# EAGLE library part XCV400ES_BG432 (library xilinx-xcv)
xcv400es_bg432 edit this description Auto generated by make-symbol-device-package-bsdl.ulp Rev. 26 Source: xcv400es_bg432.bsd
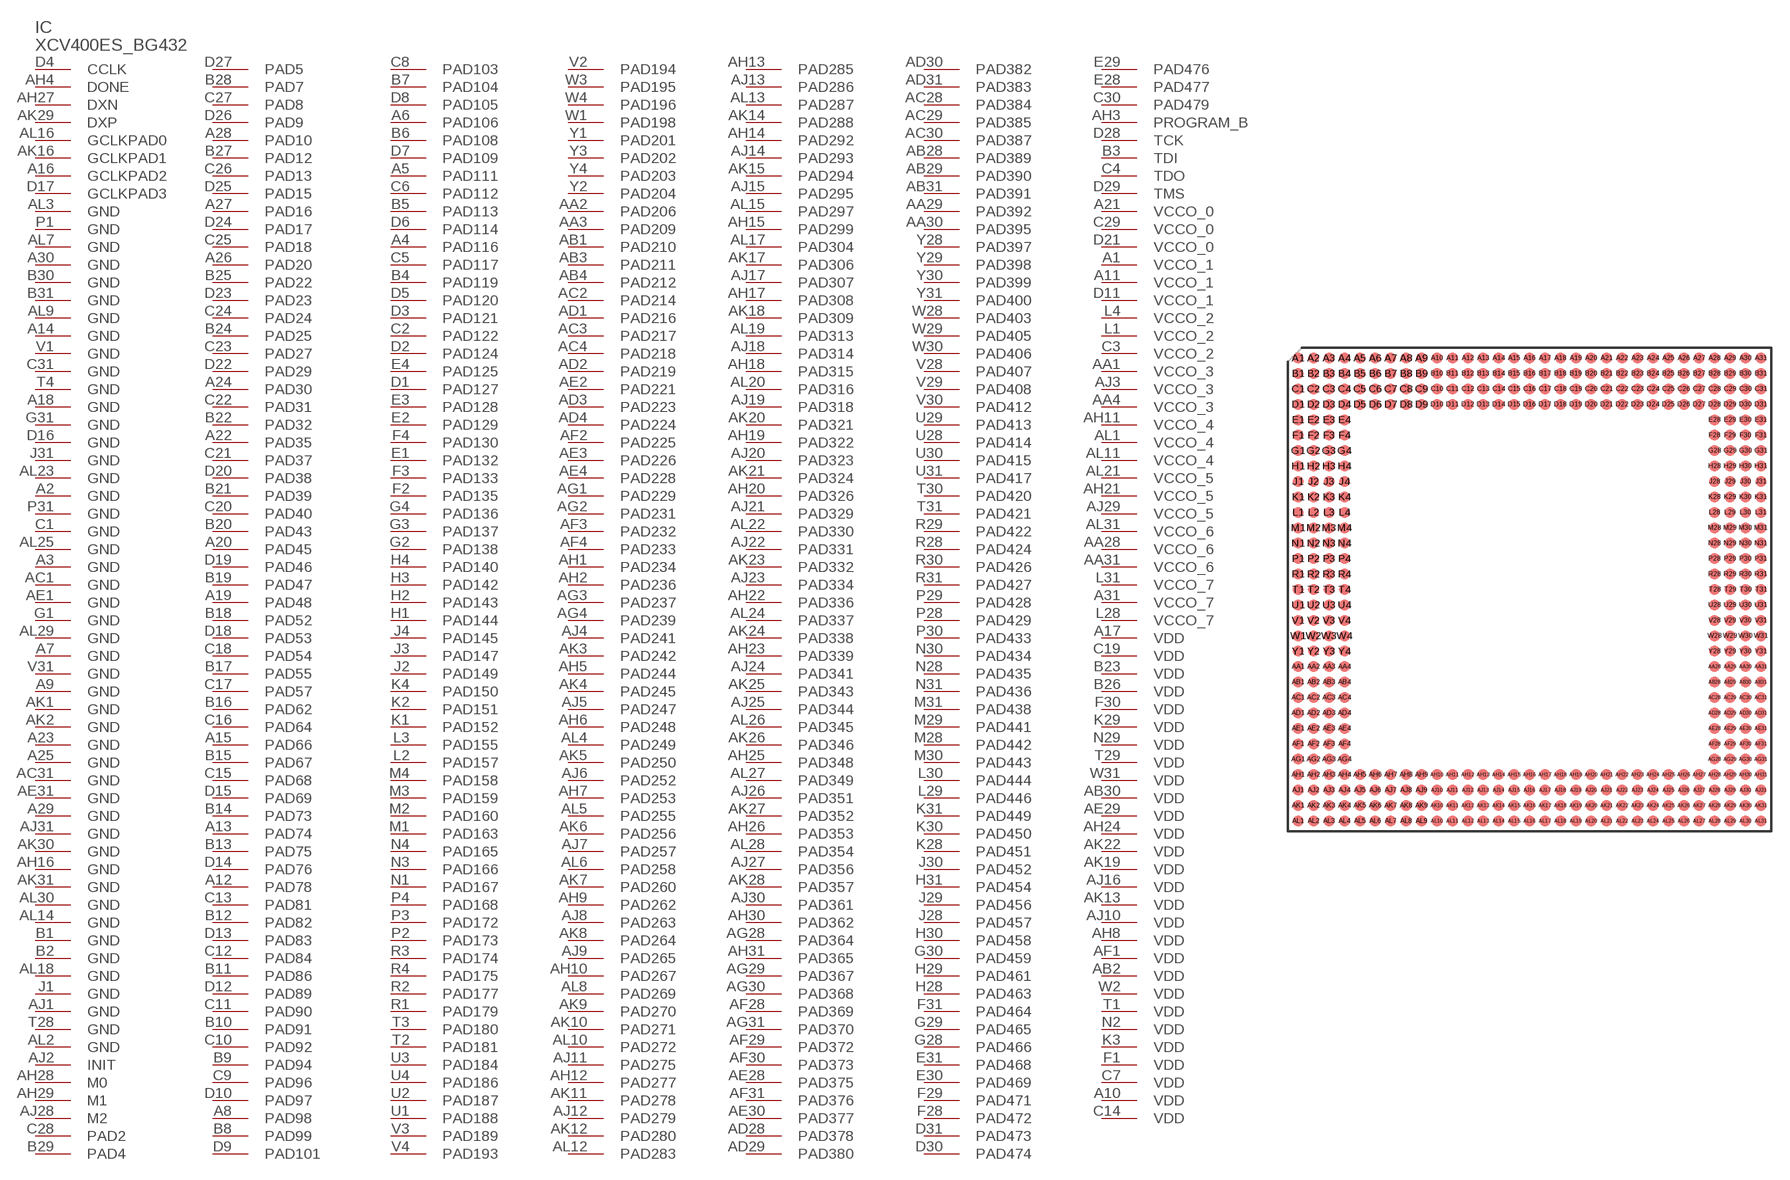
[diagram p102: symbol with the pads of BG432; footprint BG432]

Designator prefix IC

## XCV400ES_BG432 (OC_FARNELL: unknown; OC_NEWARK: unknown)  [BG432]
A1  VCCO_1  pwr
A2  GND  pwr
A3  GND  pwr
A4  PAD116
A5  PAD111
A6  PAD106
A7  GND  pwr
A8  PAD98
A9  GND  pwr
A10  VDD  pwr
A11  VCCO_1  pwr
A12  PAD78
A13  PAD74
A14  GND  pwr
A15  PAD66
A16  GCLKPAD2  in
A17  VDD  pwr
A18  GND  pwr
A19  PAD48
A20  PAD45
A21  VCCO_0  pwr
A22  PAD35
A23  GND  pwr
A24  PAD30
A25  GND  pwr
A26  PAD20
A27  PAD16
A28  PAD10
A29  GND  pwr
A30  GND  pwr
A31  VCCO_7  pwr
AA1  VCCO_3  pwr
AA2  PAD206
AA3  PAD209
AA4  VCCO_3  pwr
AA28  VCCO_6  pwr
AA29  PAD392
AA30  PAD395
AA31  VCCO_6  pwr
AB1  PAD210
AB2  VDD  pwr
AB3  PAD211
AB4  PAD212
AB28  PAD389
AB29  PAD390
AB30  VDD  pwr
AB31  PAD391
AC1  GND  pwr
AC2  PAD214
AC3  PAD217
AC4  PAD218
AC28  PAD384
AC29  PAD385
AC30  PAD387
AC31  GND  pwr
AD1  PAD216
AD2  PAD219
AD3  PAD223
AD4  PAD224
AD28  PAD378
AD29  PAD380
AD30  PAD382
AD31  PAD383
AE1  GND  pwr
AE2  PAD221
AE3  PAD226
AE4  PAD228
AE28  PAD375
AE29  VDD  pwr
AE30  PAD377
AE31  GND  pwr
AF1  VDD  pwr
AF2  PAD225
AF3  PAD232
AF4  PAD233
AF28  PAD369
AF29  PAD372
AF30  PAD373
AF31  PAD376
AG1  PAD229
AG2  PAD231
AG3  PAD237
AG4  PAD239
AG28  PAD364
AG29  PAD367
AG30  PAD368
AG31  PAD370
AH1  PAD234
AH2  PAD236
AH3  PROGRAM_B  in
AH4  DONE
AH5  PAD244
AH6  PAD248
AH7  PAD253
AH8  VDD  pwr
AH9  PAD262
AH10  PAD267
AH11  VCCO_4  pwr
AH12  PAD277
AH13  PAD285
AH14  PAD292
AH15  PAD299
AH16  GND  pwr
AH17  PAD308
AH18  PAD315
AH19  PAD322
AH20  PAD326
AH21  VCCO_5  pwr
AH22  PAD336
AH23  PAD339
AH24  VDD  pwr
AH25  PAD348
AH26  PAD353
AH27  DXN  pas
AH28  M0  in
AH29  M1  in
AH30  PAD362
AH31  PAD365
AJ1  GND  pwr
AJ2  INIT
AJ3  VCCO_3  pwr
AJ4  PAD241
AJ5  PAD247
AJ6  PAD252
AJ7  PAD257
AJ8  PAD263
AJ9  PAD265
AJ10  VDD  pwr
AJ11  PAD275
AJ12  PAD279
AJ13  PAD286
AJ14  PAD293
AJ15  PAD295
AJ16  VDD  pwr
AJ17  PAD307
AJ18  PAD314
AJ19  PAD318
AJ20  PAD323
AJ21  PAD329
AJ22  PAD331
AJ23  PAD334
AJ24  PAD341
AJ25  PAD344
AJ26  PAD351
AJ27  PAD356
AJ28  M2  in
AJ29  VCCO_5  pwr
AJ30  PAD361
AJ31  GND  pwr
AK1  GND  pwr
AK2  GND  pwr
AK3  PAD242
AK4  PAD245
AK5  PAD250
AK6  PAD256
AK7  PAD260
AK8  PAD264
AK9  PAD270
AK10  PAD271
AK11  PAD278
AK12  PAD280
AK13  VDD  pwr
AK14  PAD288
AK15  PAD294
AK16  GCLKPAD1  in
AK17  PAD306
AK18  PAD309
AK19  VDD  pwr
AK20  PAD321
AK21  PAD324
AK22  VDD  pwr
AK23  PAD332
AK24  PAD338
AK25  PAD343
AK26  PAD346
AK27  PAD352
AK28  PAD357
AK29  DXP  pas
AK30  GND  pwr
AK31  GND  pwr
AL1  VCCO_4  pwr
AL2  GND  pwr
AL3  GND  pwr
AL4  PAD249
AL5  PAD255
AL6  PAD258
AL7  GND  pwr
AL8  PAD269
AL9  GND  pwr
AL10  PAD272
AL11  VCCO_4  pwr
AL12  PAD283
AL13  PAD287
AL14  GND  pwr
AL15  PAD297
AL16  GCLKPAD0  in
AL17  PAD304
AL18  GND  pwr
AL19  PAD313
AL20  PAD316
AL21  VCCO_5  pwr
AL22  PAD330
AL23  GND  pwr
AL24  PAD337
AL25  GND  pwr
AL26  PAD345
AL27  PAD349
AL28  PAD354
AL29  GND  pwr
AL30  GND  pwr
AL31  VCCO_6  pwr
B1  GND  pwr
B2  GND  pwr
B3  TDI  in
B4  PAD119
B5  PAD113
B6  PAD108
B7  PAD104
B8  PAD99
B9  PAD94
B10  PAD91
B11  PAD86
B12  PAD82
B13  PAD75
B14  PAD73
B15  PAD67
B16  PAD62
B17  PAD55
B18  PAD52
B19  PAD47
B20  PAD43
B21  PAD39
B22  PAD32
B23  VDD  pwr
B24  PAD25
B25  PAD22
B26  VDD  pwr
B27  PAD12
B28  PAD7
B29  PAD4
B30  GND  pwr
B31  GND  pwr
C1  GND  pwr
C2  PAD122
C3  VCCO_2  pwr
C4  TDO  out
C5  PAD117
C6  PAD112
C7  VDD  pwr
C8  PAD103
C9  PAD96
C10  PAD92
C11  PAD90
C12  PAD84
C13  PAD81
C14  VDD  pwr
C15  PAD68
C16  PAD64
C17  PAD57
C18  PAD54
C19  VDD  pwr
C20  PAD40
C21  PAD37
C22  PAD31
C23  PAD27
C24  PAD24
C25  PAD18
C26  PAD13
C27  PAD8
C28  PAD2
C29  VCCO_0  pwr
C30  PAD479
C31  GND  pwr
D1  PAD127
D2  PAD124
D3  PAD121
D4  CCLK
D5  PAD120
D6  PAD114
D7  PAD109
D8  PAD105
D9  PAD101
D10  PAD97
D11  VCCO_1  pwr
D12  PAD89
D13  PAD83
D14  PAD76
D15  PAD69
D16  GND  pwr
D17  GCLKPAD3  in
D18  PAD53
D19  PAD46
D20  PAD38
D21  VCCO_0  pwr
D22  PAD29
D23  PAD23
D24  PAD17
D25  PAD15
D26  PAD9
D27  PAD5
D28  TCK  in
D29  TMS  in
D30  PAD474
D31  PAD473
E1  PAD132
E2  PAD129
E3  PAD128
E4  PAD125
E28  PAD477
E29  PAD476
E30  PAD469
E31  PAD468
F1  VDD  pwr
F2  PAD135
F3  PAD133
F4  PAD130
F28  PAD472
F29  PAD471
F30  VDD  pwr
F31  PAD464
G1  GND  pwr
G2  PAD138
G3  PAD137
G4  PAD136
G28  PAD466
G29  PAD465
G30  PAD459
G31  GND  pwr
H1  PAD144
H2  PAD143
H3  PAD142
H4  PAD140
H28  PAD463
H29  PAD461
H30  PAD458
H31  PAD454
J1  GND  pwr
J2  PAD149
J3  PAD147
J4  PAD145
J28  PAD457
J29  PAD456
J30  PAD452
J31  GND  pwr
K1  PAD152
K2  PAD151
K3  VDD  pwr
K4  PAD150
K28  PAD451
K29  VDD  pwr
K30  PAD450
K31  PAD449
L1  VCCO_2  pwr
L2  PAD157
L3  PAD155
L4  VCCO_2  pwr
L28  VCCO_7  pwr
L29  PAD446
L30  PAD444
L31  VCCO_7  pwr
M1  PAD163
M2  PAD160
M3  PAD159
M4  PAD158
M28  PAD442
M29  PAD441
M30  PAD443
M31  PAD438
N1  PAD167
N2  VDD  pwr
N3  PAD166
N4  PAD165
N28  PAD435
N29  VDD  pwr
N30  PAD434
N31  PAD436
P1  GND  pwr
P2  PAD173
P3  PAD172
P4  PAD168
P28  PAD429
P29  PAD428
P30  PAD433
P31  GND  pwr
R1  PAD179
R2  PAD177
R3  PAD174
R4  PAD175
R28  PAD424
R29  PAD422
R30  PAD426
R31  PAD427
T1  VDD  pwr
T2  PAD181
T3  PAD180
T4  GND  pwr
T28  GND  pwr
T29  VDD  pwr
T30  PAD420
T31  PAD421
U1  PAD188
U2  PAD187
U3  PAD184
U4  PAD186
U28  PAD414
U29  PAD413
U30  PAD415
U31  PAD417
V1  GND  pwr
V2  PAD194
V3  PAD189
V4  PAD193
V28  PAD407
V29  PAD408
V30  PAD412
V31  GND  pwr
W1  PAD198
W2  VDD  pwr
W3  PAD195
W4  PAD196
W28  PAD403
W29  PAD405
W30  PAD406
W31  VDD  pwr
Y1  PAD201
Y2  PAD204
Y3  PAD202
Y4  PAD203
Y28  PAD397
Y29  PAD398
Y30  PAD399
Y31  PAD400

## Footprint BG432 (pad centres in mm)
xcv300_bg432 edit this description Auto generated by make-symbol-device-package-bsdl.ulp Rev. 26 Source: xcv300_bg432.bsd
smd 0.9 x 0.9: A1 -19.05,19.05; A2 -17.78,19.05; A3 -16.51,19.05; A4 -15.24,19.05; A5 -13.97,19.05; A6 -12.7,19.05; A7 -11.43,19.05; A8 -10.16,19.05; A9 -8.89,19.05; A10 -7.62,19.05; A11 -6.35,19.05; A12 -5.08,19.05; A13 -3.81,19.05; A14 -2.54,19.05; A15 -1.27,19.05; A16 0,19.05; A17 1.27,19.05; A18 2.54,19.05; A19 3.81,19.05; A20 5.08,19.05; A21 6.35,19.05; A22 7.62,19.05; A23 8.89,19.05; A24 10.16,19.05; A25 11.43,19.05; A26 12.7,19.05; A27 13.97,19.05; A28 15.24,19.05; A29 16.51,19.05; A30 17.78,19.05; A31 19.05,19.05; AA1 -19.05,-6.35; AA2 -17.78,-6.35; AA3 -16.51,-6.35; AA4 -15.24,-6.35; AA28 15.24,-6.35; AA29 16.51,-6.35; AA30 17.78,-6.35; AA31 19.05,-6.35; AB1 -19.05,-7.62; AB2 -17.78,-7.62; AB3 -16.51,-7.62; AB4 -15.24,-7.62; AB28 15.24,-7.62; AB29 16.51,-7.62; AB30 17.78,-7.62; AB31 19.05,-7.62; AC1 -19.05,-8.89; AC2 -17.78,-8.89; AC3 -16.51,-8.89; AC4 -15.24,-8.89; AC28 15.24,-8.89; AC29 16.51,-8.89; AC30 17.78,-8.89; AC31 19.05,-8.89; AD1 -19.05,-10.16; AD2 -17.78,-10.16; AD3 -16.51,-10.16; AD4 -15.24,-10.16; AD28 15.24,-10.16; AD29 16.51,-10.16; AD30 17.78,-10.16; AD31 19.05,-10.16; AE1 -19.05,-11.43; AE2 -17.78,-11.43; AE3 -16.51,-11.43; AE4 -15.24,-11.43; AE28 15.24,-11.43; AE29 16.51,-11.43; AE30 17.78,-11.43; AE31 19.05,-11.43; AF1 -19.05,-12.7; AF2 -17.78,-12.7; AF3 -16.51,-12.7; AF4 -15.24,-12.7; AF28 15.24,-12.7; AF29 16.51,-12.7; AF30 17.78,-12.7; AF31 19.05,-12.7; AG1 -19.05,-13.97; AG2 -17.78,-13.97; AG3 -16.51,-13.97; AG4 -15.24,-13.97; AG28 15.24,-13.97; AG29 16.51,-13.97; AG30 17.78,-13.97; AG31 19.05,-13.97; AH1 -19.05,-15.24; AH2 -17.78,-15.24; AH3 -16.51,-15.24; AH4 -15.24,-15.24; AH5 -13.97,-15.24; AH6 -12.7,-15.24; AH7 -11.43,-15.24; AH8 -10.16,-15.24; AH9 -8.89,-15.24; AH10 -7.62,-15.24; AH11 -6.35,-15.24; AH12 -5.08,-15.24; AH13 -3.81,-15.24; AH14 -2.54,-15.24; AH15 -1.27,-15.24; AH16 0,-15.24; AH17 1.27,-15.24; AH18 2.54,-15.24; AH19 3.81,-15.24; AH20 5.08,-15.24; AH21 6.35,-15.24; AH22 7.62,-15.24; AH23 8.89,-15.24; AH24 10.16,-15.24; AH25 11.43,-15.24; AH26 12.7,-15.24; AH27 13.97,-15.24; AH28 15.24,-15.24; AH29 16.51,-15.24; AH30 17.78,-15.24; AH31 19.05,-15.24; AJ1 -19.05,-16.51; AJ2 -17.78,-16.51; AJ3 -16.51,-16.51; AJ4 -15.24,-16.51; AJ5 -13.97,-16.51; AJ6 -12.7,-16.51; AJ7 -11.43,-16.51; AJ8 -10.16,-16.51; AJ9 -8.89,-16.51; AJ10 -7.62,-16.51; AJ11 -6.35,-16.51; AJ12 -5.08,-16.51; AJ13 -3.81,-16.51; AJ14 -2.54,-16.51; AJ15 -1.27,-16.51; AJ16 0,-16.51; AJ17 1.27,-16.51; AJ18 2.54,-16.51; AJ19 3.81,-16.51; AJ20 5.08,-16.51; AJ21 6.35,-16.51; AJ22 7.62,-16.51; AJ23 8.89,-16.51; AJ24 10.16,-16.51; AJ25 11.43,-16.51; AJ26 12.7,-16.51; AJ27 13.97,-16.51; AJ28 15.24,-16.51; AJ29 16.51,-16.51; AJ30 17.78,-16.51; AJ31 19.05,-16.51; AK1 -19.05,-17.78; AK2 -17.78,-17.78; AK3 -16.51,-17.78; AK4 -15.24,-17.78; AK5 -13.97,-17.78; AK6 -12.7,-17.78; AK7 -11.43,-17.78; AK8 -10.16,-17.78; AK9 -8.89,-17.78; AK10 -7.62,-17.78; AK11 -6.35,-17.78; AK12 -5.08,-17.78; AK13 -3.81,-17.78; AK14 -2.54,-17.78; AK15 -1.27,-17.78; AK16 0,-17.78; AK17 1.27,-17.78; AK18 2.54,-17.78; AK19 3.81,-17.78; AK20 5.08,-17.78; AK21 6.35,-17.78; AK22 7.62,-17.78; AK23 8.89,-17.78; AK24 10.16,-17.78; AK25 11.43,-17.78; AK26 12.7,-17.78; AK27 13.97,-17.78; AK28 15.24,-17.78; AK29 16.51,-17.78; AK30 17.78,-17.78; AK31 19.05,-17.78; AL1 -19.05,-19.05; AL2 -17.78,-19.05; AL3 -16.51,-19.05; AL4 -15.24,-19.05; AL5 -13.97,-19.05; AL6 -12.7,-19.05; AL7 -11.43,-19.05; AL8 -10.16,-19.05; AL9 -8.89,-19.05; AL10 -7.62,-19.05; AL11 -6.35,-19.05; AL12 -5.08,-19.05; AL13 -3.81,-19.05; AL14 -2.54,-19.05; AL15 -1.27,-19.05; AL16 0,-19.05; AL17 1.27,-19.05; AL18 2.54,-19.05; AL19 3.81,-19.05; AL20 5.08,-19.05; AL21 6.35,-19.05; AL22 7.62,-19.05; AL23 8.89,-19.05; AL24 10.16,-19.05; AL25 11.43,-19.05; AL26 12.7,-19.05; AL27 13.97,-19.05; AL28 15.24,-19.05; AL29 16.51,-19.05; AL30 17.78,-19.05; AL31 19.05,-19.05; B1 -19.05,17.78; B2 -17.78,17.78; B3 -16.51,17.78; B4 -15.24,17.78; B5 -13.97,17.78; B6 -12.7,17.78; B7 -11.43,17.78; B8 -10.16,17.78; B9 -8.89,17.78; B10 -7.62,17.78; B11 -6.35,17.78; B12 -5.08,17.78; B13 -3.81,17.78; B14 -2.54,17.78; B15 -1.27,17.78; B16 0,17.78; B17 1.27,17.78; B18 2.54,17.78; B19 3.81,17.78; B20 5.08,17.78; B21 6.35,17.78; B22 7.62,17.78; B23 8.89,17.78; B24 10.16,17.78; B25 11.43,17.78; B26 12.7,17.78; B27 13.97,17.78; B28 15.24,17.78; B29 16.51,17.78; B30 17.78,17.78; B31 19.05,17.78; C1 -19.05,16.51; C2 -17.78,16.51; C3 -16.51,16.51; C4 -15.24,16.51; C5 -13.97,16.51; C6 -12.7,16.51; C7 -11.43,16.51; C8 -10.16,16.51; C9 -8.89,16.51; C10 -7.62,16.51; C11 -6.35,16.51; C12 -5.08,16.51; C13 -3.81,16.51; C14 -2.54,16.51; C15 -1.27,16.51; C16 0,16.51; C17 1.27,16.51; C18 2.54,16.51; C19 3.81,16.51; C20 5.08,16.51; C21 6.35,16.51; C22 7.62,16.51; C23 8.89,16.51; C24 10.16,16.51; C25 11.43,16.51; C26 12.7,16.51; C27 13.97,16.51; C28 15.24,16.51; C29 16.51,16.51; C30 17.78,16.51; C31 19.05,16.51; D1 -19.05,15.24; D2 -17.78,15.24; D3 -16.51,15.24; D4 -15.24,15.24; D5 -13.97,15.24; D6 -12.7,15.24; D7 -11.43,15.24; D8 -10.16,15.24; D9 -8.89,15.24; D10 -7.62,15.24; D11 -6.35,15.24; D12 -5.08,15.24; D13 -3.81,15.24; D14 -2.54,15.24; D15 -1.27,15.24; D16 0,15.24; D17 1.27,15.24; D18 2.54,15.24; D19 3.81,15.24; D20 5.08,15.24; D21 6.35,15.24; D22 7.62,15.24; D23 8.89,15.24; D24 10.16,15.24; D25 11.43,15.24; D26 12.7,15.24; D27 13.97,15.24; D28 15.24,15.24; D29 16.51,15.24; D30 17.78,15.24; D31 19.05,15.24; E1 -19.05,13.97; E2 -17.78,13.97; E3 -16.51,13.97; E4 -15.24,13.97; E28 15.24,13.97; E29 16.51,13.97; E30 17.78,13.97; E31 19.05,13.97; F1 -19.05,12.7; F2 -17.78,12.7; F3 -16.51,12.7; F4 -15.24,12.7; F28 15.24,12.7; F29 16.51,12.7; F30 17.78,12.7; F31 19.05,12.7; G1 -19.05,11.43; G2 -17.78,11.43; G3 -16.51,11.43; G4 -15.24,11.43; G28 15.24,11.43; G29 16.51,11.43; G30 17.78,11.43; G31 19.05,11.43; H1 -19.05,10.16; H2 -17.78,10.16; H3 -16.51,10.16; H4 -15.24,10.16; H28 15.24,10.16; H29 16.51,10.16; H30 17.78,10.16; H31 19.05,10.16; J1 -19.05,8.89; J2 -17.78,8.89; J3 -16.51,8.89; J4 -15.24,8.89; J28 15.24,8.89; J29 16.51,8.89; J30 17.78,8.89; J31 19.05,8.89; K1 -19.05,7.62; K2 -17.78,7.62; K3 -16.51,7.62; K4 -15.24,7.62; K28 15.24,7.62; K29 16.51,7.62; K30 17.78,7.62; K31 19.05,7.62; L1 -19.05,6.35; L2 -17.78,6.35; L3 -16.51,6.35; L4 -15.24,6.35; L28 15.24,6.35; L29 16.51,6.35; L30 17.78,6.35; L31 19.05,6.35; M1 -19.05,5.08; M2 -17.78,5.08; M3 -16.51,5.08; M4 -15.24,5.08; M28 15.24,5.08; M29 16.51,5.08; M30 17.78,5.08; M31 19.05,5.08; N1 -19.05,3.81; N2 -17.78,3.81; N3 -16.51,3.81; N4 -15.24,3.81; N28 15.24,3.81; N29 16.51,3.81; N30 17.78,3.81; N31 19.05,3.81; P1 -19.05,2.54; P2 -17.78,2.54; P3 -16.51,2.54; P4 -15.24,2.54; P28 15.24,2.54; P29 16.51,2.54; P30 17.78,2.54; P31 19.05,2.54; R1 -19.05,1.27; R2 -17.78,1.27; R3 -16.51,1.27; R4 -15.24,1.27; R28 15.24,1.27; R29 16.51,1.27; R30 17.78,1.27; R31 19.05,1.27; T1 -19.05,0; T2 -17.78,0; T3 -16.51,0; T4 -15.24,0; T28 15.24,0; T29 16.51,0; T30 17.78,0; T31 19.05,0; U1 -19.05,-1.27; U2 -17.78,-1.27; U3 -16.51,-1.27; U4 -15.24,-1.27; U28 15.24,-1.27; U29 16.51,-1.27; U30 17.78,-1.27; U31 19.05,-1.27; V1 -19.05,-2.54; V2 -17.78,-2.54; V3 -16.51,-2.54; V4 -15.24,-2.54; V28 15.24,-2.54; V29 16.51,-2.54; V30 17.78,-2.54; V31 19.05,-2.54; W1 -19.05,-3.81; W2 -17.78,-3.81; W3 -16.51,-3.81; W4 -15.24,-3.81; W28 15.24,-3.81; W29 16.51,-3.81; W30 17.78,-3.81; W31 19.05,-3.81; Y1 -19.05,-5.08; Y2 -17.78,-5.08; Y3 -16.51,-5.08; Y4 -15.24,-5.08; Y28 15.24,-5.08; Y29 16.51,-5.08; Y30 17.78,-5.08; Y31 19.05,-5.08